# EAGLE library part ZXM62P02E6 (library Diodes_Inc_By_element14_Batch_1)
20V P-CHANNEL ENHANCEMENT MODE MOSFET
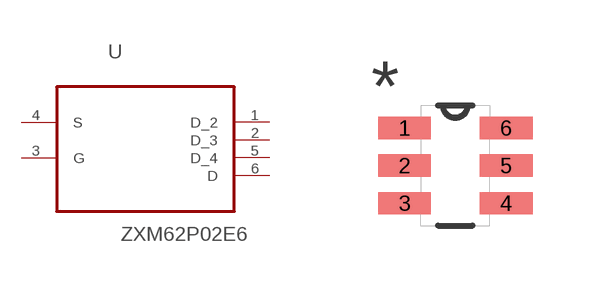
[diagram p51: symbol with the pads of SOT95P280X145-6N; footprint SOT95P280X145-6N]

Designator prefix U

## ZXM62P02E6 (MPN: ZXM62P02E6; OC_FARNELL: 9525319; OC_NEWARK: 98K4140; PACKAGE: SOT-23-6; SUPPLIER: Diodes Inc)  [SOT95P280X145-6N]
1  D_2  pas
2  D_3  pas
3  G  pas
4  S  pas
5  D_4  pas
6  D  pas

## Footprint SOT95P280X145-6N (pad centres in mm)
smd 1.321 x 0.559: 1 -1.27,0.94; 2 -1.27,0; 3 -1.27,-0.94; 4 1.27,-0.94; 5 1.27,0; 6 1.27,0.94